# EAGLE library part FFC2B28-04-G (library SamacSys_Parts)
FFC & FPC Connectors 04W,0.5mm FFC Con,R/A,Dual Cont,B/Flp,H1.0mm,Gld,SMT,T&R Source: Datasheet <https://gct.co/newark/connector/FFC2B28>
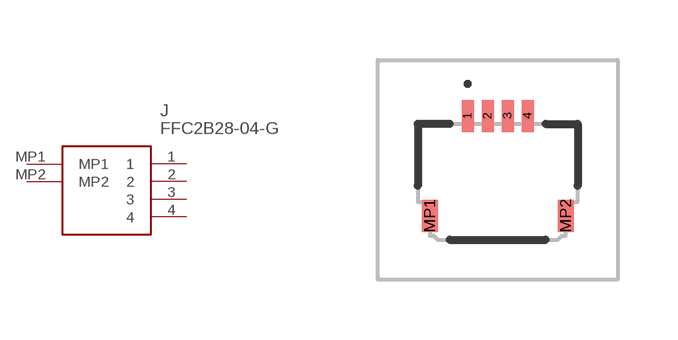
[diagram p3: symbol with the pads of FFC2B2804G; footprint FFC2B2804G]

Designator prefix J

## FFC2B28-04-G (DESCRIPTION: FFC & FPC Connectors 04W,0.5mm FFC Con,R/A,Dual Cont,B/Flp,H1.0mm,Gld,SMT,T&R; HEIGHT: 1.1mm; MANUFACTURER_NAME: GCT (GLOBAL CONNECTOR TECHNOLOGY); MANUFACTURER_PART_NUMBER: FFC2B28-04-G; MOUSER_PART_NUMBER: 640-FFC2B28-04-G; MOUSER_PRICE-STOCK: https://www.mouser.co.uk/ProductDetail/GCT/FFC2B28-04-G?qs=KUoIvG%2F9IlZ33mRhxAPOVw%3D%3D)  [FFC2B2804G]
1  1
2  2
3  3
4  4
MP1  MP1
MP2  MP2

## Footprint FFC2B2804G (pad centres in mm)
FFC2B28-04-G-1
smd 0.3 x 0.8: 1 -0.75,1.55; 2 -0.25,1.55; 3 0.25,1.55; 4 0.75,1.55
smd 0.4 x 0.8: MP1 -1.7,-0.95; MP2 1.7,-0.95